# Altium footprint library SG__PCB_Unsorted.PcbLib: 113 footprints (part 5 of 8)
Each footprint in its own frame and in the unit in brackets; x right, y up, seen from the top. Pads: shape width x height; smd on the part's side, far side on the other; paste and mask are expansions set on the pad; w line width, h text height; cw(c..) or ccw(c..) is an arc to the next point about the centre after c.
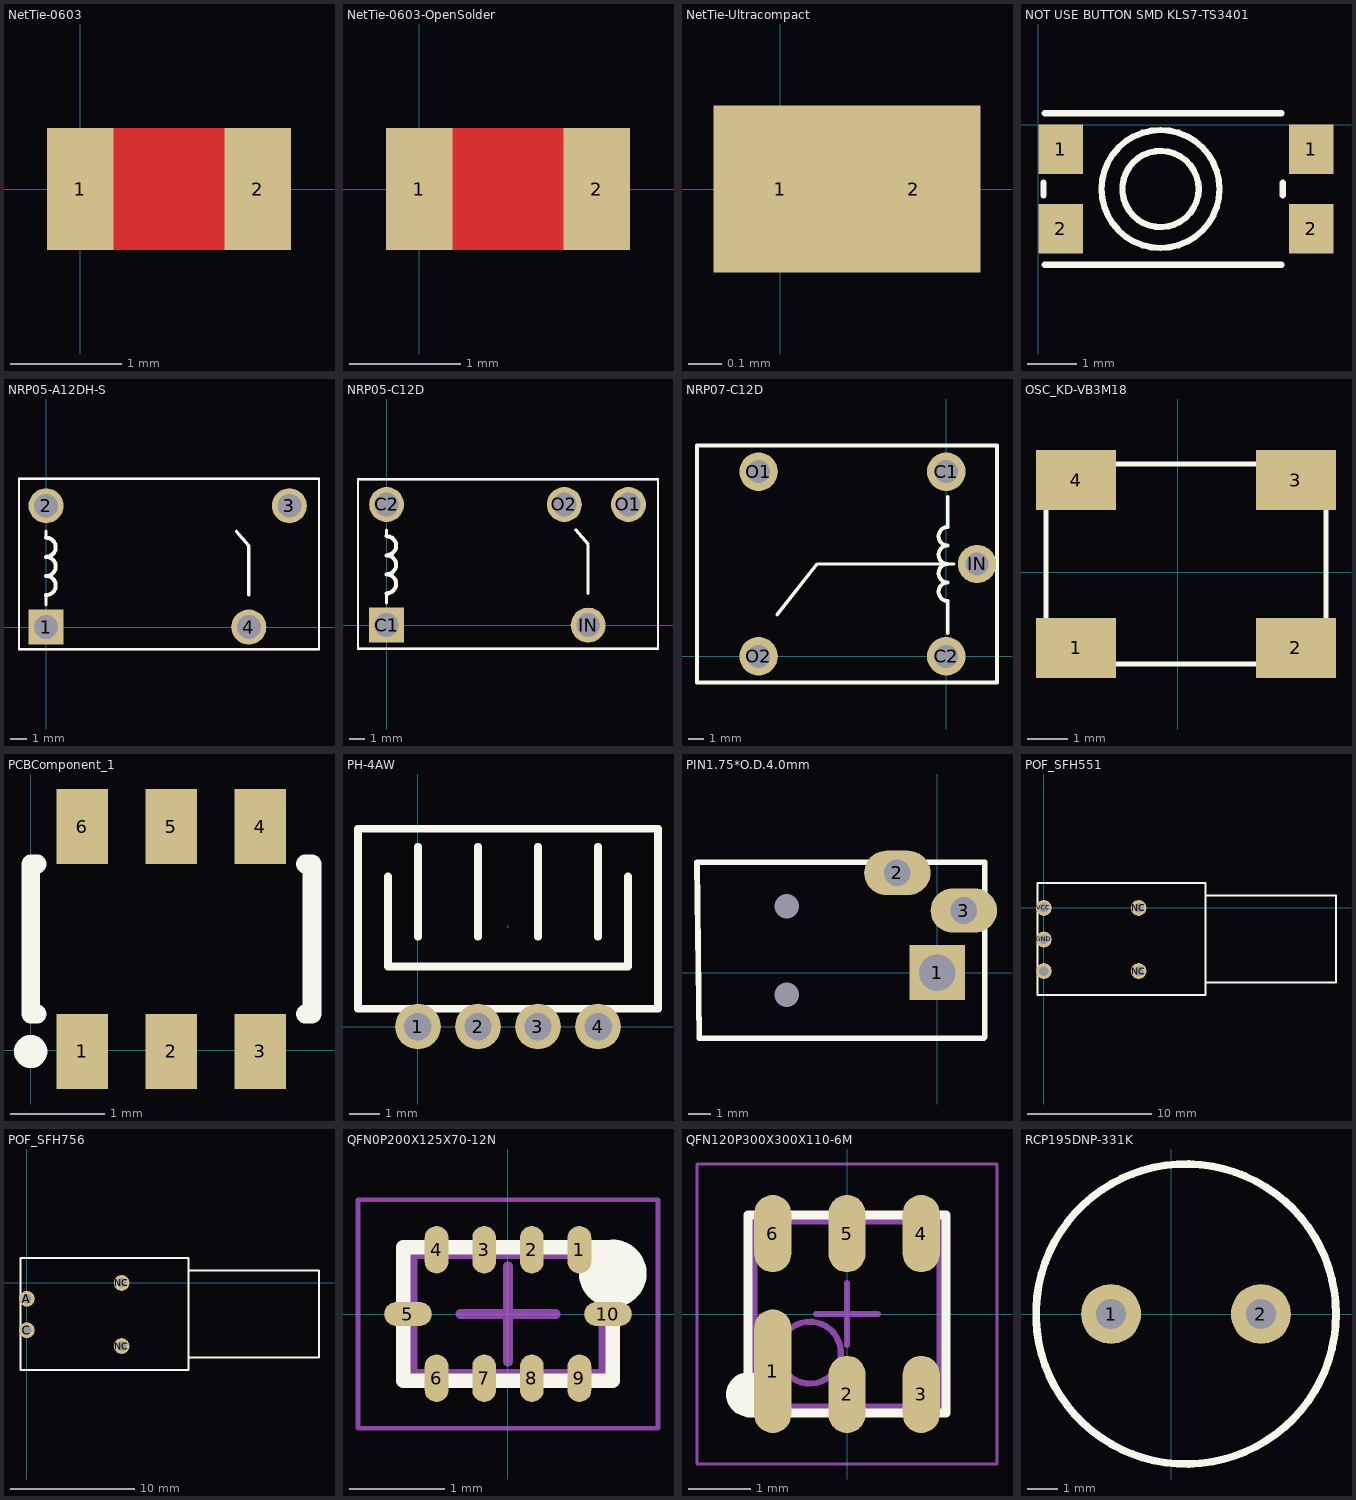
[diagram p4: the footprints below, top view; thin cyan lines are the x and y axes]

## NetTie-0603 [mm]
pads (2):
  rect 0.6x1.1 smd paste+0 mask+0.102: 1(0,0) 2(1.6,0)
Top Layer:
  rectangle: 0.287,-0.55 1.319,0.55

## NetTie-0603-OpenSolder [mm]
pads (2):
  rect 0.6x1.1 smd paste+0: 1(0,0)
  rect 0.6x1.1 smd paste+0 mask+0.102: 2(1.6,0)
Top Layer:
  rectangle: 0.287,-0.55 1.319,0.55

## NetTie-Ultracompact [mm]
pads (2):
  rect 0.4x0.5 smd paste+0.01 mask+0.102: 1(0,0) 2(0.4,0)

## NOT USE BUTTON SMD KLS7-TS3401 [mm] "KLS7-TS3401- 2,5-180(TVAF11)"
height 2.5
pads (4):
  rect 0.9x1 smd: 1(0.45,-0.5) 1(5.5,-0.5) 2(0.45,-2.1) 2(5.5,-2.1)
Top Overlay:
  circle w0.127: c2.462,-1.3 r0.769
  circle w0.127: c2.462,-1.3 r1.19
  lines w0.127: 0.1,-1.425 0.1,-1.175 ; 0.125,-2.825 4.9,-2.825 ; 0.125,0.225 4.9,0.225 ; 4.925,-1.425 4.925,-1.175
3D body: height 1.79, standoff 0, extent 0.087,-2.824 4.913,0.224
3D body: height 2.52, standoff 1.79, extent 1.52,-2.223 3.412,-0.326

## NRP05-A12DH-S [mm]
pads (4):
  rect 2.2x2.2 hole 1.5 mask+0.05: 1(0,0)
  round 2.2 hole 1.5 mask+0.05: 2(0,7.6) 3(15.24,7.6) 4(12.7,0)
Top Overlay:
  lines w0.15: -1.7,-1.4 -1.7,9.3 17.1,9.3 17.1,-1.4 -1.7,-1.4
  lines w0.2: 0,1.4 0,2 ; 0,5.6 0,6 ; 11.922,6 12.7,5.1 ; 12.7,2 12.7,5
  lines w0.254: 0,2 ccw(c0,2.6) 0,3.2 ccw(c0,3.8) 0,4.4 ccw(c0,5) 0,5.6
Assembly Top:
  lines w0.15: -1.7,-1.4 -1.7,9.3 17.1,9.3 17.1,-1.4 -1.7,-1.4
3D body "NRP05-C-12D.step": height 16.1, standoff -3.5, extent -1.7,-1.4 17.1,9.2

## NRP05-C12D [mm]
pads (5):
  rect 2.2x2.2 hole 1.5 mask+0.05: C1(0,0)
  round 2.2 hole 1.5 mask+0.05: C2(0,7.6) IN(12.7,0) O1(15.24,7.6) O2(11.2,7.6)
Top Overlay:
  lines w0.15: -1.8,-1.5 -1.8,9.2 17.1,9.2 17.1,-1.5 -1.8,-1.5
  lines w0.2: 0,1.4 0,2 ; 0,5.6 0,6 ; 11.9,6 11.922,6 12.7,5.1 ; 12.7,2 12.7,5 ; 12.7,5 12.7,5
  lines w0.254: 0,2 ccw(c0,2.6) 0,3.2 ccw(c0,3.8) 0,4.4 ccw(c0,5) 0,5.6
Assembly Top:
  lines w0.15: -1.8,-1.5 -1.8,9.2 17.1,9.2 17.1,-1.5 -1.8,-1.5
3D body "NRP05-C-12D.step": height 16.1, standoff -3.5, extent -1.7,-1.4 17.1,9.2

## NRP07-C12D [mm]
pads (5):
  round 2.5 hole 1.5: C1(0,12) C2(0,0) IN(2,6) O1(-12.2,12) O2(-12.2,0)
Top Overlay:
  lines w0.2: -11,2.7 -8.4,6 0.5,6 ; 0.1,1.5 0.1,3.6 ; 0.1,8.4 0.1,10.4
  lines w0.254: 0.1,3.6 cw(c0.1,4.2) 0.1,4.8 cw(c0.1,5.4) 0.1,6 cw(c0.1,6.6) 0.1,7.2 cw(c0.1,7.8) 0.1,8.4 ; -16.2,-1.7 -16.2,12 -16.2,13.7 3.3,13.7 3.3,-1.7 -16.2,-1.7
3D body: height 15, standoff 0.5, extent -16.3,-1.8 3.3,13.8

## OSC_KD-VB3M18 [mm]
pads (4):
  rect 2x1.5 smd: 1(-2.55,-1.9) 2(2.95,-1.9) 3(2.95,2.3) 4(-2.55,2.3)
Top Overlay:
  lines w0.127: -3.3,-2.3 3.7,-2.3 3.7,2.7 -3.3,2.7 -3.3,-2.3

## PCBComponent_1 [mil]
pads (6):
  rect 21.66x31.49 smd: 1(21.62,-0.43) 2(59.02,-0.43) 3(96.42,-0.43)
  rect 21.66x31.5 smd: 4(96.42,94.02) 5(59.02,94.02) 6(21.62,94.02)
Top Overlay:
  circle w10: c-0.03,-0.45 r1.97
  lines w7.87: 2.75,15.29 -0.04,15.29 -0.04,78.29 2.75,78.29 ; 115.28,15.29 118.07,15.29 118.07,78.29 115.28,78.29

## PH-4AW [mil] "PH Header Male Pin 2.0mm 4 Through Hole"
height 236.22
pads (4):
  round 60 hole 36: 1(0,0) 2(78.8,0) 3(157.5,0) 4(236.3,0)
Top Overlay:
  lines w10: -39.37,196.85 -39.37,78.74 275.59,78.74 275.59,196.85 ; 0.06,118.05 0.06,236.16 ; 78.77,23.56 314.99,23.56 314.99,259.78 78.77,259.78 ; 78.8,118.05 78.8,236.16 ; 157.51,118.05 157.51,236.16 ; 157.54,23.56 -78.68,23.56 -78.68,259.78 157.54,259.78 ; 236.25,118.05 236.25,236.16
Mechanical 15:
  lines w0.1: 117.16,130.25 119.16,132.25

## PIN1.75*O.D.4.0mm [mm] "DC jack/socket,DC023 pin1.75"
height 6
pads (5):
  rect 2.5x2.5 hole 1.65: 1(0,0)
  oval 3x2 hole 1.2: 2(-1.8,4.5) 3(1.2,2.8)
  round 0.1 hole 1.1 unplated: ""(-6.8,-1) ""(-6.8,3)
Top Overlay:
  lines w0.254: -10.85,4.972 -10.75,-2.972 2.095,-2.972 2.15,-2.917 2.15,4.972 -10.845,4.972

## POF_SFH551 [mil] "HighCAP"
height 346.46
pads (5):
  round 50 hole 30 paste-99999 mask-1.97: DATA(0,-200) GND(0,-100) NC(300,-200) NC(300,0) VCC(0,0)
Top Overlay:
  lines w6: 511.81,-236.22 925.2,-236.22 925.2,39.37 511.81,39.37 ; -19.68,-275.59 511.81,-275.59 511.81,78.74 -19.68,78.74 -19.68,-275.59

## POF_SFH756 [mil] "HighCAP"
height 346.46
pads (4):
  round 50 hole 30 paste-99999 mask-1.97: A(0,-50) C(0,-150) NC(300,-200) NC(300,0)
Top Overlay:
  lines w6: 511.81,-255.91 511.81,-275.59 ; 511.81,-275.59 511.81,78.74 -19.68,78.74 -19.68,-275.59 511.81,-275.59 ; 511.81,-236.22 511.81,19.68 511.81,39.37 925.2,39.37 925.2,-236.22 511.81,-236.22

## QFN0P200X125X70-12N [mm] "QFN, 12-Leads, Body 2,00x1,25mm, Pitch 0,50mm/0,00mm, IPC Medium Density"
height 0.7
pads (10):
  oval 0.25x0.5 smd: 1(0.75,0.675) 2(0.25,0.675) 3(-0.25,0.675) 4(-0.75,0.675) 6(-0.75,-0.675) 7(-0.25,-0.675) 8(0.25,-0.675) 9(0.75,-0.675)
  oval 0.5x0.25 smd: 5(-1.05,0) 10(1.05,0)
Top Overlay:
  circle w0.356: c1.1,0.425 r0.178
  lines w0.152: -1.1,-0.7 -1.1,0.7 1.1,0.7 1.1,-0.7 -1.1,-0.7
Assembly Top:
  lines w0.1: -1,-0.625 -1,0.625 1,0.625 1,-0.625 -1,-0.625
Courtyard Top:
  lines w0.05: -1.575,-1.2 -1.575,1.2 1.575,1.2 1.575,-1.2 -1.575,-1.2
  lines w0.1: -0.5,0 0.5,0 ; 0,-0.5 0,0.5
3D body "QFN0P200X125X70-12N.step": height 0.7, standoff 0, extent -1.001,-0.626 1.001,0.626

## QFN120P300X300X110-6M [mm] "QFN, 6-Leads, Body 3,00x3,00mm, Pitch 1,20mm/2,25mm, IPC Low Density"
height 1.1
pads (6):
  oval 0.6x2 smd: 1(-1.2,-0.925)
  oval 0.6x1.25 smd: 2(0,-1.3) 3(1.2,-1.3) 4(1.2,1.3) 5(0,1.3) 6(-1.2,1.3)
Top Overlay:
  circle w0.356: c-1.6,-1.3 r0.178
  lines w0.152: -1.6,-1.6 -1.6,1.6 1.6,1.6 1.6,-1.6 -1.6,-1.6
Assembly Top:
  circle w0.1: c-0.6,-0.625 r0.5
  lines w0.1: -1.5,-1.5 1.5,-1.5 1.5,1.5 -1.5,1.5 -1.5,-1.5
Courtyard Top:
  lines w0.05: -2.425,-2.425 2.425,-2.425 2.425,2.425 -2.425,2.425 -2.425,-2.425
  lines w0.1: -0.5,0 0.5,0 ; 0,-0.5 0,0.5
3D body "QFN120P300X300X110-6M.step": height 1.1, standoff 0, extent -1.501,-1.5 1.501,1.5

## RCP195DNP-331K [mm]
pads (2):
  round 2 hole 1: 1(-2,0) 2(3,0)
Top Overlay:
  circle w0.254: c0.5,0 r5.001
3D body: height 5, standoff 0, extent -4.5,-4.9 5.5,5.1